# Altium footprint library MCore.PcbLib: 45 footprints (part 3 of 3)
Each footprint in its own frame and in the unit in brackets; x right, y up, seen from the top. Pads: shape width x height; smd on the part's side, far side on the other; paste and mask are expansions set on the pad; w line width, h text height; cw(c..) or ccw(c..) is an arc to the next point about the centre after c.
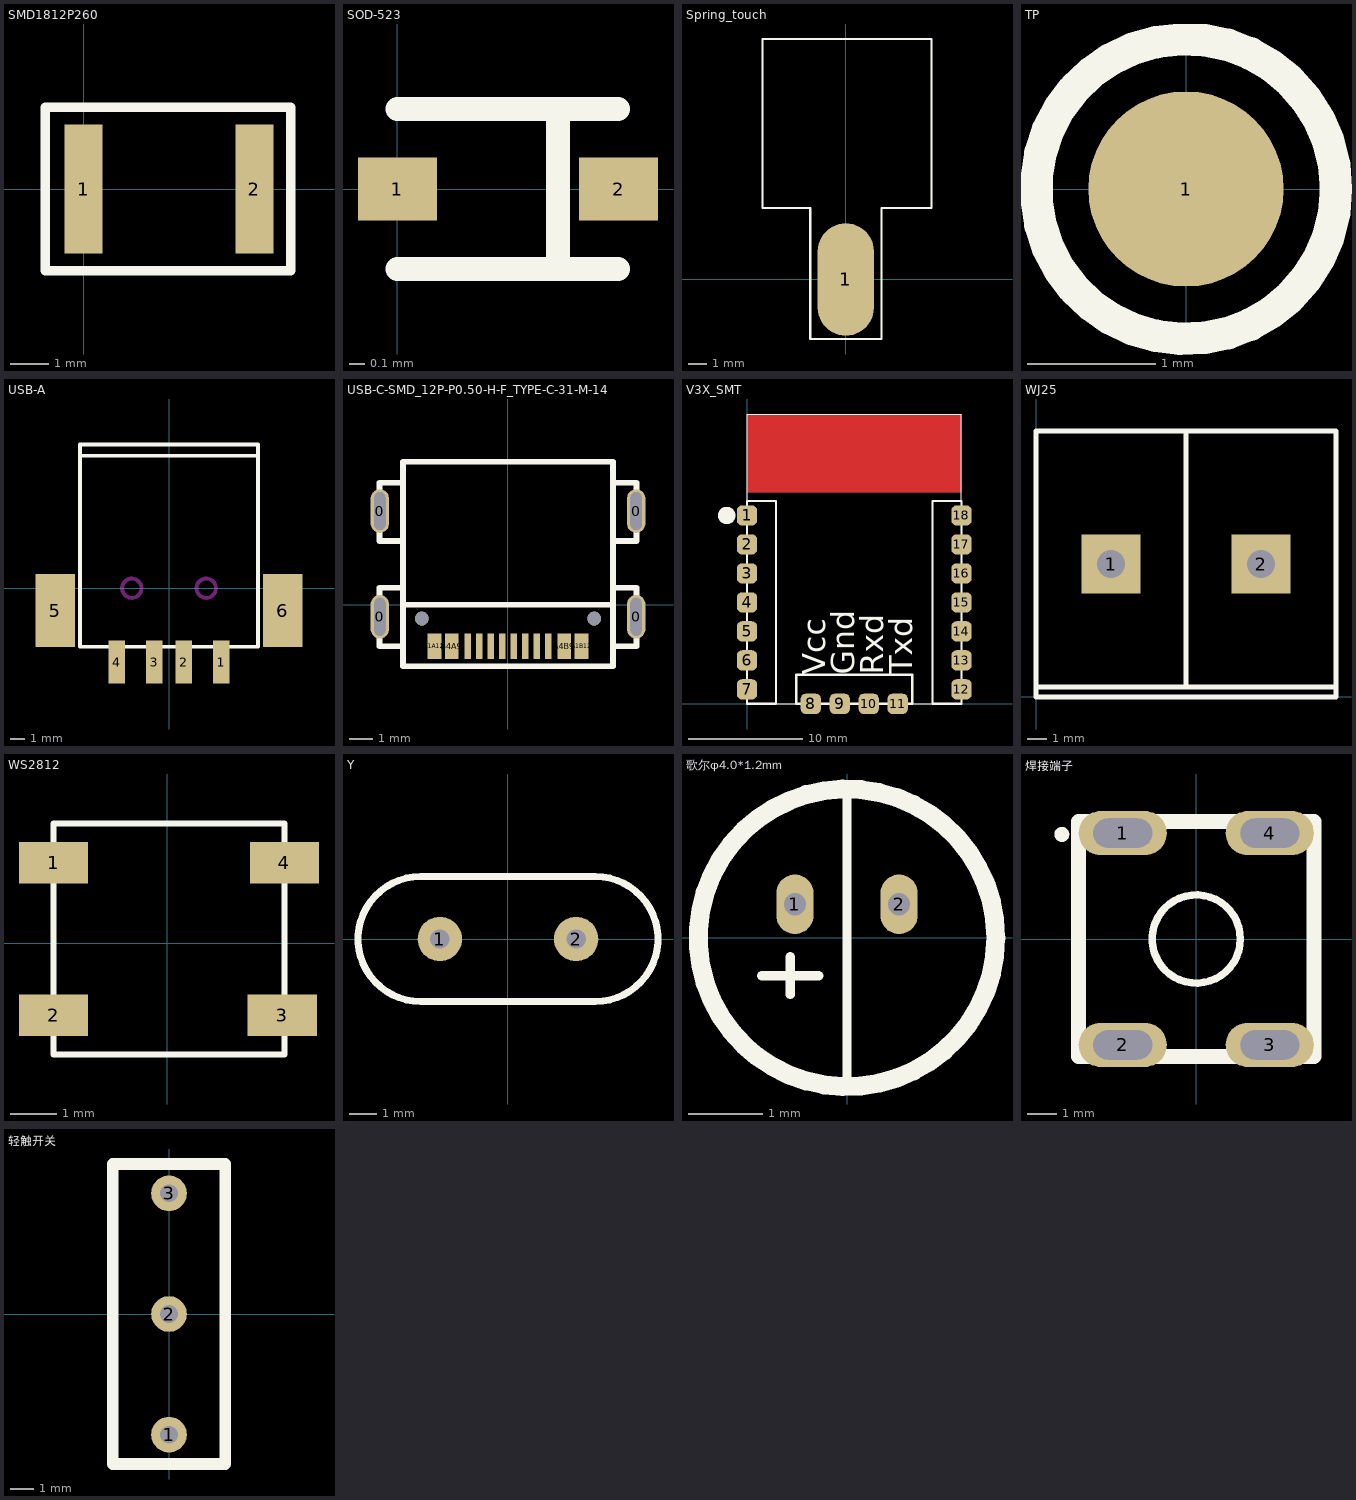
[diagram p2: the footprints below, top view; thin cyan lines are the x and y axes]

## SMD1812P260 [mm]
pads (2):
  rect 1x3.41 smd: 1(0,0) 2(4.5,0)
Top Overlay:
  lines w0.254: -1.016,-2.159 5.461,-2.159 5.461,2.159 -1.016,2.159 -1.016,-2.159

## SOD-523 [mm]
height 0.6
pads (2):
  rect 0.5x0.4 smd: 1(0,0) 2(1.4,0)
Top Overlay:
  lines w0.152: 0,-0.508 1.397,-0.508 ; 0,0.508 1.397,0.508 ; 1.016,-0.508 1.016,0.508

## Spring_touch [mm]
pads (1):
  oval 3x6 smd: 1(0,0)
Top Overlay:
  lines w0.127: -4.445,12.81 -4.445,3.81 -1.905,3.81 -1.905,-3.175 1.905,-3.175 1.905,3.81 4.572,3.81 4.572,12.827 -4.445,12.827

## TP [mil]
height 393.7
pads (1):
  round 60 smd mask+11.81: 1(0,0)
Top Overlay:
  circle w10: c0,0 r46.1

## USB-A [mm]
pads (6):
  rect 1.12x2.88 smd: 1(3.5,-4.96) 2(1,-4.96) 3(-1,-4.96) 4(-3.5,-4.96)
  rect 2.65x4.9 smd: 5(-7.625,-1.5) 6(7.625,-1.5)
Top Overlay:
  lines w0.254: -5.969,8.89 5.969,8.89 ; -5.969,-3.937 5.969,-3.937 5.969,9.652 -5.969,9.652 -5.969,-3.937
Keep-Out Layer:
  circle w0.254: c-2.5,0 r0.65
  circle w0.254: c2.5,0 r0.65

## USB-C-SMD_12P-P0.50-H-F_TYPE-C-31-M-14 [mm] "Type-C下沉式"
pads (18):
  oval 0.8x1.898 hole 0.5 slot 1.65 at 90 deg: 0(-5.575,-0.517) 0(-5.575,4.083) 0(5.575,-0.517) 0(5.575,4.083)
  rect 0.6x1.1 smd: A1B12(3.2,-1.797) A4B9(2.45,-1.797) B1A12(-3.2,-1.797) B4A9(-2.45,-1.797)
  rect 0.3x1.102 smd: A5(1.249,-1.797) A6(0.251,-1.797) A7(-0.25,-1.797) A8(-1.25,-1.797) B6(-0.75,-1.797) B7(0.751,-1.797) B8(1.749,-1.797)
  rect 0.3x1.1 smd: B5(-1.75,-1.797)
  round 0.6 hole 0.6 unplated: ""(-3.75,-0.597) ""(3.75,-0.597)
Top Overlay:
  lines w0.254: -4.572,-1.797 -5.588,-1.797 -5.588,0.743 -4.572,0.743 ; -4.572,-0.045 -4.572,6.223 4.572,6.223 4.572,-0.045 ; -4.572,0.006 4.572,0.006 ; -4.572,0.133 -4.572,-2.667 4.572,-2.667 4.572,0.133 ; -4.572,2.775 -5.588,2.775 -5.588,5.315 -4.572,5.315 ; 4.572,-1.797 5.588,-1.797 5.588,0.743 4.572,0.743 ; 4.572,2.775 5.588,2.775 5.588,5.315 4.572,5.315

## V3X_SMT [mil]
pads (18):
  rrect50% 70x70 smd: 1(0,650) 2(0,550) 3(0,450) 4(0,350) 5(0,250) 6(0,150) 7(0,50) 8(220,0) 9(320,0) 10(420,0) 11(520,0) 12(740,50) 13(740,150) 14(740,250) 15(740,350) 16(740,450) 17(740,550) 18(740,650)
Top Layer:
  pour cut-out: 740,730 0,730 0,1000 740,1000
Bottom Layer:
  pour cut-out: 740,730 740,1000 0,1000 0,730
Top Overlay:
  circle w30: c-70,650 r15
  lines w3.94: 0,0 0,1000 740,1000 740,0 0,0
  lines w7.87: 0,0 0,700 100,700 100,0 0,0 ; 170,0 170,100 570,100 570,0 170,0 ; 640,0 640,700 740,700 740,0 640,0
  text "Vcc" at 270,100 h78.74
  text "Gnd" at 370,100 h78.74
  text "Rxd" at 470,100 h78.74
  text "Txd" at 570,100 h78.74
3D body: height 10, standoff 0, extent 0,0 740,1000
3D body: height 20, standoff 10, extent 0,0 740,730

## WJ25 [mm]
height 14.8
pads (2):
  rect 3x3 hole 1.4: 1(3.81,6.75) 2(11.43,6.75)
Top Overlay:
  lines w0.254: 0,0.508 15.24,0.508 ; 7.62,0.508 7.62,13.5 ; 0,0 15.24,0 15.24,13.5 0,13.5 0,0

## WS2812 [mm]
pads (4):
  rect 1.5x0.9 smd: 1(-2.46,1.737) 2(-2.46,-1.563) 3(2.493,-1.563) 4(2.54,1.737)
Top Overlay:
  lines w0.127: -2.46,-2.413 2.54,-2.413 2.54,2.587 -2.46,2.587 -2.46,-2.413

## Y [mm]
pads (2):
  round 1.6 hole 0.7: 1(-2.45,0) 2(2.45,0)
Top Overlay:
  lines w0.254: -3.15,-2.248 cw(c-3.15,0) -3.15,2.248 3.15,2.248 cw(c3.15,0) 3.15,-2.248 -3.15,-2.248
3D body "hc-49s_n.stp": height 3.6, standoff -2.9, extent -5.388,-2.27 5.412,2.23

## 歌尔φ4.0*1.2mm [mm]
pads (2):
  oval 0.5x0.8 hole 0.3: 1(-0.7,0.45) 2(0.7,0.45)
Top Overlay:
  circle w0.254: c0,0 r2
  lines w0.127: -1.143,-0.508 -0.381,-0.508 ; -0.762,-0.762 -0.762,-0.254 ; 0,-2.032 0,1.905
3D body: height 2.3, standoff 0.3, extent -2,-2 2,2

## 焊接端子 [mm] "PCB焊接端子"
pads (4):
  oval 3x1.5 hole 1 slot 2 at 0 deg: 1(-2.5,3.6) 2(-2.5,-3.6) 3(2.5,-3.6) 4(2.5,3.6)
Top Overlay:
  circle w0.254: c-4.572,3.556 r0.127
  circle w0.254: c0,0 r1.5
  lines w0.508: -4,-4 -4,4 4,4 4,-4 -4,-4

## 轻触开关 [mil] "S"
pads (3):
  round 60 hole 30: 1(0,-202.76) 2(0,0) 3(0,202.76)
Top Overlay:
  lines w20: -94.49,-251.97 94.49,-251.97 ; -94.49,-249.49 -94.49,251.97 94.49,251.97 94.49,-250
3D body: height 10, standoff 0, extent 0,0 0,0
3D body: height 228.35, standoff 0, extent -95,-255 95,250